# Altium schematic symbol library BoardB.SchLib: 16 symbols
Pins are listed as number, name and electrical type; pins without a type are passive.

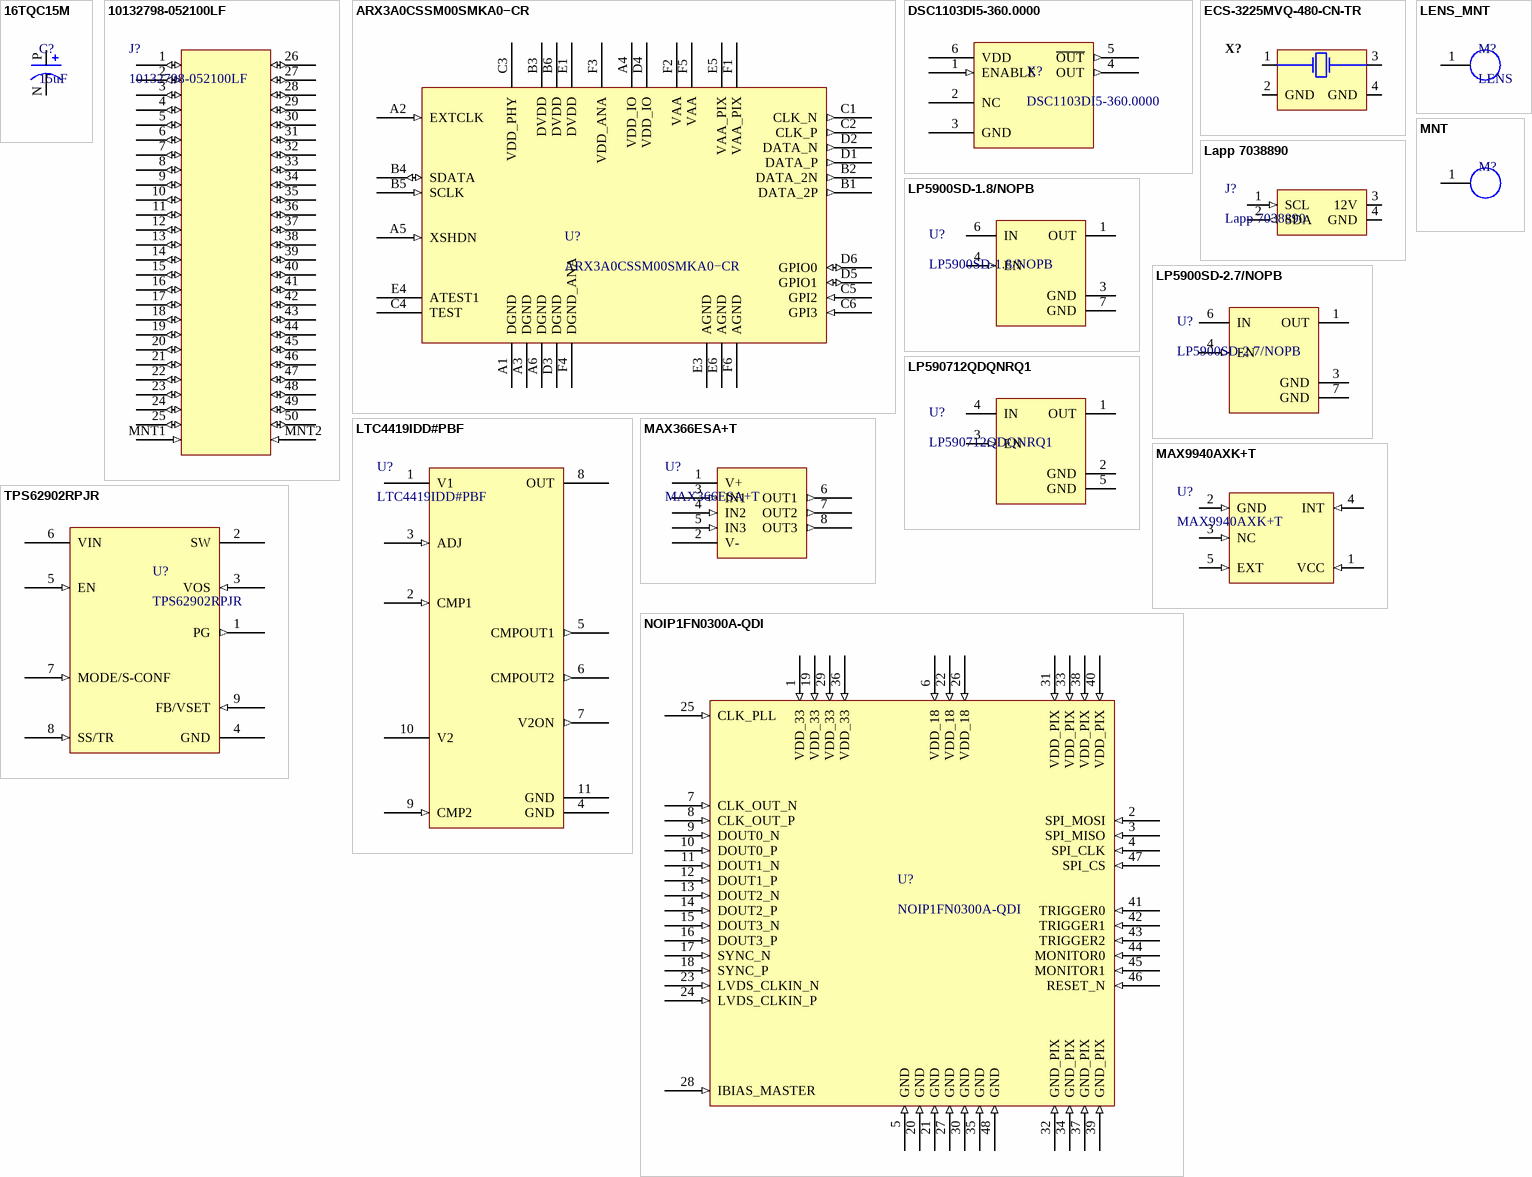
[diagram p0: symbols 16TQC15M to TPS62902RPJR]

## 16TQC15M
designator C?, comment 15uF
Polymer capacitor 15 uF 16 VDC, 16TQC15M, Panasonic Automotive & Industrial Systems; Tolerance: 20%; Voltage Rating: 16V; ESR (Equivalent Series Resistance): 90mR; Ripple Current: 1A; Leakage Current: 72uA; Polarity: Polar; Life (Hours): 2000Hour; Dissipation Factor: 10%; Supplier 1: Digi-Key; RoHS: Yes; Stock 1: 1294; Pricing 1: 1=2.02000, 10=1.59300, 50=1.38060, 100=1.19470, 500=0.90264, 1000=0.79646 (USD); Mount: Surface Mount; Case/Package: 1411; Number of Pins: 2; Case Code (Metric): 3528; Case Code (Imperial): 1411; Min Operating Temperature: -55°C; Max Operating Temperature: 105°C; Capacitance: 15uF; Package Quantity: 2000; Packaging: Tape and Reel; Voltage Rating (DC): 16V; Termination: SMD/SMT; Voltage: 16V; Features: General Purpose; Length: 3.5mm; Width: 0.11inch; Height: 1.9mm; Height - Seated (Max): 0.079inch; Depth: 2.8mm; Radiation Hardening: No; REACH SVHC: No SVHC; Lead Free: Lead Free; RoHS Compliant: Yes; ComponentLink1URL: https://datasheet.ciiva.com/25784/1734368-25784922.pdf?src-supplier=Farnell; ComponentLink1Description: https://datasheet.ciiva.com/25784/1734368-25784922.pdf?src-supplier=Farnell; ComponentLink2URL: https://datasheet.ciiva.com/48675/aaa8000ce14-48675000.pdf?src-supplier=Avnet; ComponentLink2Description: https://datasheet.ciiva.com/48675/aaa8000ce14-48675000.pdf?src-supplier=Avnet; ComponentLink3URL: https://datasheet.ciiva.com/48543/tqc-series-eng-tds-48543116.pdf?src-supplier=Distrelec; ComponentLink3Description: https://datasheet.ciiva.com/48543/tqc-series-eng-tds-48543116.pdf?src-supplier=Distrelec; Manufacturer Part Number: 16TQC15M; Manufacturer: Panasonic; Supplier Part Number 1: P16485CT-ND; Category: Tantalum Capacitors
footprint 16TQC15M
pins: N, P

## 10132798-052100LF
designator J?
50POSITIONING, 2.7MM HEIGHT RECE; Connector Type: Receptacle; Number of Positions: 50; Pitch: 0.02inch; Mated Stacking Heights: 6mm; InternalPart#: 10132798-052100LF; Supplier 1: Digi-Key; RoHS: Yes; Stock 1: 694; Pricing 1: 1=1.45000, 10=1.27200, 100=1.09740, 500=0.89792 (USD); Mount: Surface Mount; Contact Plating: Gold; Packaging: Tape and Reel; Number of Rows: 2; ComponentLink1URL: https://cdn.amphenol-icc.com/media/wysiwyg/files/drawing/10132798.pdf?src-supplier=Digi-Key; ComponentLink1Description: https://cdn.amphenol-icc.com/media/wysiwyg/files/drawing/10132798.pdf?src-supplier=Digi-Key; ComponentLink2URL: http://portal.fciconnect.com/Comergent//fci/drawing/10132798.pdf?src-supplier=Digi-Key; ComponentLink2Description: http://portal.fciconnect.com/Comergent//fci/drawing/10132798.pdf?src-supplier=Digi-Key
footprint 10132798-052100LF
pins: 1 (io), 2 (io), 3 (io), 4 (io), 5 (io), 6 (io), 7 (io), 8 (io), 9 (io), 10 (io), 11 (io), 12 (io), 13 (io), 14 (io), 15 (io), 16 (io), 17 (io), 18 (io), 19 (io), 20 (io), 21 (io), 22 (io), 23 (io), 24 (io), 25 (io), 26 (io), 27 (io), 28 (io), 29 (io), 30 (io), 31 (io), 32 (io), 33 (io), 34 (io), 35 (io), 36 (io), 37 (io), 38 (io), 39 (io), 40 (io), 41 (io), 42 (io), 43 (io), 44 (io), 45 (io), 46 (io), 47 (io), 48 (io), 49 (io), 50 (io), MNT1 (in), MNT2 (in)

## ARX3A0CSSM00SMKA0−CR
designator U?
Manufacturer: ON Semiconductor; Manufacturer Part Number: ARX3A0CSSM00SMD20; Supplier 1: Avnet; RoHS: Yes; RoHS Compliant: Yes; Supplier Part Number 1: ARX3A0CSSM00SMD20; Category: Optoelectronics
footprint ARX3A0CSSM00SMKA0-CR (Footprint not found)
pins: A1 DGND (power), A2 EXTCLK (in), A3 DGND (power), A4 VDD_IO (power), A5 XSHDN (in), A6 DGND (power), B1 DATA_2P (out), B2 DATA_2N (out), B3 DVDD (power), B4 SDATA (io), B5 SCLK (in), B6 DVDD (power), C1 CLK_N (out), C2 CLK_P (out), C3 VDD_PHY (power), C4 TEST, C5 GPI2 (in), C6 GPI3 (in), D1 DATA_P (out), D2 DATA_N (out), D3 DGND (power), D4 VDD_IO (power), D5 GPIO1 (io), D6 GPIO0 (io), E1 DVDD (power), E3 AGND (power), E4 ATEST1, E5 VAA_PIX (power), E6 AGND (power), F1 VAA_PIX (power), F2 VAA (power), F3 VDD_ANA (power), F4 DGND_ANA (power), F5 VAA (power), F6 AGND (power)

## DSC1103DI5-360.0000
designator X?
Mems Oscillator, Low Power, Lvds, -40C-85C, 10Ppm, 2.5X2.0Mm6 Vdfn 2.0X2.5Mm Tube; Manufacturer: Microchip; Supplier 1: Digi-Key; Manufacturer Part Number: DSC1103DI5-360.0000; RoHS: Yes; Category: Oscillators; Stock 1: 706; Pricing 1: 1=5.51000, 25=4.59000, 100=4.51500 (USD); RoHS Compliant: Yes; Supplier Part Number 1: DSC1103DI5-360.0000-ND
footprint DSC1103DI5-360.0000
pins: 1 ENABLE (in), 2 NC, 3 GND (power), 4 OUT (out), 5 ~{OUT} (out), 6 VDD (power)

## ECS-3225MVQ-480-CN-TR
designator X?  (value not drawn)
48 MHz XO (Standard) HCMOS Oscillator 1.7V ~ 3.63V Enable/Disable 4-SMD, No Lead; Manufacturer Part Number: ABM8G-12.000MHZ-4Y-T3; Manufacturer: Abracon; ESR (Equivalent Series Resistance): 120R; Frequency: 12MHz; Load Capacitance: 10pF; Frequency Tolerance: 30ppm; Operating Frequency: 12 MHz; RoHS: Yes; Stock 1: 11481; Pricing 1: 1=0.67000, 10=0.59600, 50=0.55720, 100=0.49250, 500=0.46656, 1000=0.38880 (USD); Mount: Surface Mount; Case/Package: CSMD; Number of Pins: 4; Min Operating Temperature: -10°C; Max Operating Temperature: 60°C; Packaging: Tape and Reel; Frequency Stability: 30ppm; Series: ABM8G; Series Resistance: 120R; Length: 3.2mm; Width: 0.098inch; Height: 0.039inch; Depth: 2.5mm; REACH SVHC: No SVHC; Lead Free: Lead Free; ComponentLink1URL: https://datasheet.ciiva.com/15116/getdatasheetpartid-719872-15116768.pdf?src-supplier=Verical; ComponentLink1Description: https://datasheet.ciiva.com/15116/getdatasheetpartid-719872-15116768.pdf?src-supplier=Verical; ComponentLink2URL: https://datasheet.ciiva.com/857/abm8g-857959.pdf?src-supplier=Digi-Key; ComponentLink2Description: https://datasheet.ciiva.com/857/abm8g-857959.pdf?src-supplier=Digi-Key; ComponentLink3URL: https://datasheet.ciiva.com/857/abm8g-857960.pdf?src-supplier=Digi-Key; ComponentLink3Description: https://datasheet.ciiva.com/857/abm8g-857960.pdf?src-supplier=Digi-Key; ComponentLink4URL: https://datasheet.ciiva.com/857/abm8g-857961.pdf?src-supplier=Digi-Key; ComponentLink4Description: https://datasheet.ciiva.com/857/abm8g-857961.pdf?src-supplier=Digi-Key; ComponentLink5URL: https://datasheet.ciiva.com/16216/abm8g-16216655.pdf?src-supplier=Future+Electronics; ComponentLink5Description: https://datasheet.ciiva.com/16216/abm8g-16216655.pdf?src-supplier=Future+Electronics; Category: Crystals; Supplier 1: Digi-Key; Supplier Part Number 1: 50-ECS-3225MVQ-480-CN-CT-ND
footprint ECS-3225MVQ-480-CN-TR
pins: 1, 2 GND (power), 3, 4 GND (power)

## Lapp 7038890
designator J?
footprint Lapp 7038890
pins: 1 SCL (in), 2 SDA (out), 3 12V (power), 4 GND (power)

## LENS_MNT
designator M?, comment LENS
footprint LENS_MNT
pins: 1

## LP5900SD-1.8/NOPB
designator U?
TEXAS INSTRUMENTS         LP5900SD-1.8/NOPB.             LDO VOLTAGE REGULATOR, 3.3V, 150mA, LLP-6, FULL REEL; Output Voltage: 1.8V; Min Input Voltage: 2.5V; Max Input Voltage: 5.5V; Number of Outputs: 1; Polarity: Positive; Quiescent Current: 50uA; Accuracy: 2%; Output Type: Fixed; Dropout Voltage: 150mV; Supplier 1: Digi-Key; RoHS: Yes; Stock 1: 9836; Pricing 1: 1=0.87000, 10=0.77000, 25=0.72280, 100=0.59000, 250=0.54800, 500=0.46640 (USD); Mount: Surface Mount; Number of Pins: 6; Min Operating Temperature: -40°C; Max Operating Temperature: 125°C; Output Current: 150mA; Package Quantity: 1000; Max Output Current: 150mA; Nominal Output Voltage: 1.8V; Packaging: Tape and Reel; Output Voltage Accuracy: 2%; Length: 2.2mm; Width: 2.5mm; Height: 0.8mm; Radiation Hardening: No; REACH SVHC: No SVHC; Lead Free: Lead Free; RoHS Compliant: Yes; ComponentLink1URL: https://datasheet.ciiva.com/6598/lp5900-6598182.pdf?src-supplier=Digi-Key; ComponentLink1Description: https://datasheet.ciiva.com/6598/lp5900-6598182.pdf?src-supplier=Digi-Key; ComponentLink2URL: https://datasheet.ciiva.com/6598/lp5900-6598185.pdf?src-supplier=Digi-Key; ComponentLink2Description: https://datasheet.ciiva.com/6598/lp5900-6598185.pdf?src-supplier=Digi-Key; ComponentLink3URL: https://datasheet.ciiva.com/6598/lp5900-6598187.pdf?src-supplier=Digi-Key; ComponentLink3Description: https://datasheet.ciiva.com/6598/lp5900-6598187.pdf?src-supplier=Digi-Key; ComponentLink4URL: https://datasheet.ciiva.com/26175/lp5900-26175289.pdf?src-supplier=Avnet+Europe; ComponentLink4Description: https://datasheet.ciiva.com/26175/lp5900-26175289.pdf?src-supplier=Avnet+Europe; ComponentLink5URL: https://datasheet.ciiva.com/14278/lp5900-14278125.pdf?src-supplier=Avnet; ComponentLink5Description: https://datasheet.ciiva.com/14278/lp5900-14278125.pdf?src-supplier=Avnet; ComponentLink6URL: https://datasheet.ciiva.com/28643/1772310-28643116.pdf?src-supplier=Element14; ComponentLink6Description: https://datasheet.ciiva.com/28643/1772310-28643116.pdf?src-supplier=Element14; ComponentLink7URL: https://datasheet.ciiva.com/22678/1772310-22678013.pdf?src-supplier=Element14; ComponentLink7Description: https://datasheet.ciiva.com/22678/1772310-22678013.pdf?src-supplier=Element14; Category: Voltage Regulators - Linear; Manufacturer Part Number: LP5900SD-1.8/NOPB; Manufacturer: Texas Instruments; Supplier Part Number 1: LP5900SD-1.8/NOPBCT-ND
footprint LP5900-WSON
pins: 1 OUT (power), 3 GND (power), 4 EN (in), 6 IN (power), 7 GND (power)

## LP5900SD-2.7/NOPB
designator U?
LDO Regulator Pos 2.7V 0.15A 6-Pin WSON EP T/R; Manufacturer: TI National Semiconductor; Output Current: 150mA; Number of Outputs: 1; Min Input Voltage: 2.5V; Max Input Voltage: 5.5V; Polarity: Positive; Quiescent Current: 50uA; Accuracy: 2%; Output Type: Fixed; Dropout Voltage: 80mV; Supplier 1: Digi-Key; RoHS: Yes; Stock 1: 2483; Pricing 1: 1=0.87000, 10=0.77000, 25=0.72280, 100=0.59000, 250=0.54800, 500=0.46640 (USD); Mount: Surface Mount; Number of Pins: 6; Min Operating Temperature: -40°C; Max Operating Temperature: 125°C; Output Voltage: 2.7V; Package Quantity: 1000; Max Output Current: 150mA; Packaging: Tape and Reel; Number of Regulators: 1; Output Voltage Accuracy: 2%; Radiation Hardening: No; Lead Free: Lead Free; RoHS Compliant: Yes; ComponentLink1URL: https://datasheet.ciiva.com/6598/lp5900-6598117.pdf?src-supplier=Digi-Key; ComponentLink1Description: https://datasheet.ciiva.com/6598/lp5900-6598117.pdf?src-supplier=Digi-Key; Category: Voltage Regulators - Linear; Manufacturer Part Number: LP5900SD-2.7/NOPB; Supplier Part Number 1: LP5900SD-2.7/NOPBCT-ND
footprint LP5900-WSON
pins: 1 OUT (power), 3 GND (power), 4 EN (in), 6 IN (power), 7 GND (power)

## LP590712QDQNRQ1
designator U?
Manufacturer: Texas Instruments; Supplier 1: Digi-Key; RoHS: Yes; Stock 1: 2825; Pricing 1: 1=0.64000, 10=0.56000, 25=0.52560, 100=0.42910, 250=0.39856, 500=0.33920, 1000=0.27136 (USD); Manufacturer Part Number: LP590712QDQNRQ1; Supplier Part Number 1: 296-LP590712QDQNRQ1CT-ND
footprint LP590712QDQNRQ1
pins: 1 OUT (power), 2 GND (power), 3 EN (in), 4 IN (power), 5 GND (power)

## LTC4419IDD#PBF
designator U?
IC SOURCE SELECTOR SWITCH 10DFN; Manufacturer: Analog Devices / Linear Technology; Min Supply Voltage: 1.8V; Max Supply Voltage: 18V; Supplier 1: Digi-Key; RoHS: Yes; Stock 1: 2936; Pricing 1: 1=7.57000, 10=6.83700, 25=6.51920, 100=5.66040, 250=5.40600, 500=4.92900, 1000=4.50000 (USD); Case/Package: DFN; Number of Pins: 10; Min Operating Temperature: 0°C; Max Operating Temperature: 70°C; REACH SVHC: No SVHC; RoHS Compliant: Yes; ComponentLink1URL: http://www.farnell.com/datasheets/2124270.pdf?src-supplier=Farnell; ComponentLink1Description: http://www.farnell.com/datasheets/2124270.pdf?src-supplier=Farnell; ComponentLink2URL: http://www.linear.com/docs/54122?src-supplier=Digi-Key; ComponentLink2Description: http://www.linear.com/docs/54122?src-supplier=Digi-Key; ComponentLink3URL: http://www.farnell.com/datasheets/2124270.pdf?src-supplier=Element14; ComponentLink3Description: http://www.farnell.com/datasheets/2124270.pdf?src-supplier=Element14; Category: Power Management ICs; Manufacturer Part Number: LTC4419IDD#PBF; Supplier Part Number 1: LTC4419IDD#PBF-ND
footprint LTC4419IDD#PBF
pins: 1 V1 (power), 2 CMP1 (in), 3 ADJ (in), 4 GND (power), 5 CMPOUT1 (out), 6 CMPOUT2 (out), 7 V2ON (out), 8 OUT (power), 9 CMP2 (in), 10 V2 (power), 11 GND (power)

## MAX366ESA+T
designator U?
Hot Swap Voltage Controllers Signal Line Circuit Protector; Manufacturer: Maxim; Number of Circuits: 3; Clamping Voltage: 40V; Max Power Dissipation: 471mW; Supplier 1: Mouser; RoHS: Yes; Stock 1: 2323; Pricing 1: 1=5.00000, 10=4.40000, 50=4.16000, 100=3.63000, 1000=3.30000, 10000=3.18000 (USD); Case/Package: SOIC; Min Operating Temperature: -40°C; Max Operating Temperature: 85°C; Packaging: Tape and Reel; Package Quantity: 2500; Series: MAX366; Radiation Hardening: No; RoHS Compliant: Yes; ComponentLink1URL: https://datasheet.ciiva.com/26787/max366esa-t-26787912.pdf?src-supplier=IIIC; ComponentLink1Description: https://datasheet.ciiva.com/26787/max366esa-t-26787912.pdf?src-supplier=IIIC; ComponentLink2URL: https://datasheet.ciiva.com/16617/max366-max367-16617322.pdf?src-supplier=Avnet+Europe; ComponentLink2Description: https://datasheet.ciiva.com/16617/max366-max367-16617322.pdf?src-supplier=Avnet+Europe; ComponentLink3URL: https://datasheet.ciiva.com/361/max366-max367-361731.pdf?src-supplier=Digi-Key; ComponentLink3Description: https://datasheet.ciiva.com/361/max366-max367-361731.pdf?src-supplier=Digi-Key; Category: Interface ICs; Manufacturer Part Number: MAX366ESA+T; Supplier Part Number 1: 700-MAX366ESAT
footprint MAX366ESA+T
pins: 1 V+ (power), 2 V- (power), 3 IN1 (in), 4 IN2 (in), 5 IN3 (in), 6 OUT1 (out), 7 OUT2 (out), 8 OUT3 (out)

## MAX9940AXK+T
designator U?
footprint MAX9940AXK+T
pins: 1 VCC (in), 2 GND (in), 3 NC (in), 4 INT (in), 5 EXT (in)

## MNT
designator M?
footprint MNT
pins: 1

## NOIP1FN0300A-QDI
designator U?
IC IMAGE SENSOR 0.3MP 48LCC; Manufacturer: ON Semiconductor; Operating Supply Voltage: 3.4V; Supplier 1: Avnet; Manufacturer Part Number: NOIP1FN0300A-QDI; RoHS: Yes; Category: Optoelectronics; Pricing 1: 6=58.23675, 8=57.37875, 20=56.62800, 30=55.87725, 60=55.12650, 300=53.83950, 600=53.41050 (USD); Mount: Surface Mount; Case/Package: LCC; Number of Pins: 48; Min Operating Temperature: -40°C; Max Operating Temperature: 85°C; Lead Free: Lead Free; RoHS Compliant: Yes; ComponentLink1URL: http://www.onsemi.com/pub_link/Collateral/PB_NOIP1SN1300A-D.PDF?src-supplier=Digi-Key; ComponentLink1Description: http://www.onsemi.com/pub_link/Collateral/PB_NOIP1SN1300A-D.PDF?src-supplier=Digi-Key; ComponentLink2URL: http://www.onsemi.com/pub_link/Collateral/NOIP1SN1300A-D.PDF?src-supplier=Avnet+Asia; ComponentLink2Description: http://www.onsemi.com/pub_link/Collateral/NOIP1SN1300A-D.PDF?src-supplier=Avnet+Asia; Supplier Part Number 1: NOIP1FN0300A-QDI
footprint NOIP1FN0300A-QDI
pins: 1 VDD_33 (in), 2 SPI_MOSI (in), 3 SPI_MISO (in), 4 SPI_CLK (in), 5 GND (in), 6 VDD_18 (in), 7 CLK_OUT_N (in), 8 CLK_OUT_P (in), 9 DOUT0_N (in), 10 DOUT0_P (in), 11 DOUT1_N (in), 12 DOUT1_P (in), 13 DOUT2_N (in), 14 DOUT2_P (in), 15 DOUT3_N (in), 16 DOUT3_P (in), 17 SYNC_N (in), 18 SYNC_P (in), 19 VDD_33 (in), 20 GND (in), 21 GND (in), 22 VDD_18 (in), 23 LVDS_CLKIN_N (in), 24 LVDS_CLKIN_P (in), 25 CLK_PLL (in), 26 VDD_18 (in), 27 GND (in), 28 IBIAS_MASTER (in), 29 VDD_33 (in), 30 GND (in), 31 VDD_PIX (in), 32 GND_PIX (in), 33 VDD_PIX (in), 34 GND_PIX (in), 35 GND (in), 36 VDD_33 (in), 37 GND_PIX (in), 38 VDD_PIX (in), 39 GND_PIX (in), 40 VDD_PIX (in), 41 TRIGGER0 (in), 42 TRIGGER1 (in), 43 TRIGGER2 (in), 44 MONITOR0 (in), 45 MONITOR1 (in), 46 RESET_N (in), 47 SPI_CS (in), 48 GND (in)

## TPS62902RPJR
designator U?
Manufacturer: Texas Instruments; Supplier 1: Digi-Key; RoHS: Yes; Stock 1: 7457; Pricing 1: 1=1.81000, 10=1.62400, 25=1.53160, 100=1.30500, 250=1.22536, 500=1.07220, 1000=0.96526 (USD); Supplier Part Number 1: 296-TPS62902RPJRCT-ND; Manufacturer Part Number: TPS62902RPJR
footprint TPS62902RPJR
pins: 1 PG (out), 2 SW (power), 3 VOS (in), 4 GND (power), 5 EN (in), 6 VIN (power), 7 MODE/S-CONF (in), 8 SS/TR (in), 9 FB/VSET (in)